# Altium footprint library Inductor-Radial-DR1213.PcbLib: 1 footprints
Each footprint in its own frame and in the unit in brackets; x right, y up, seen from the top. Pads: shape width x height; smd on the part's side, far side on the other; paste and mask are expansions set on the pad; w line width, h text height; cw(c..) or ccw(c..) is an arc to the next point about the centre after c.
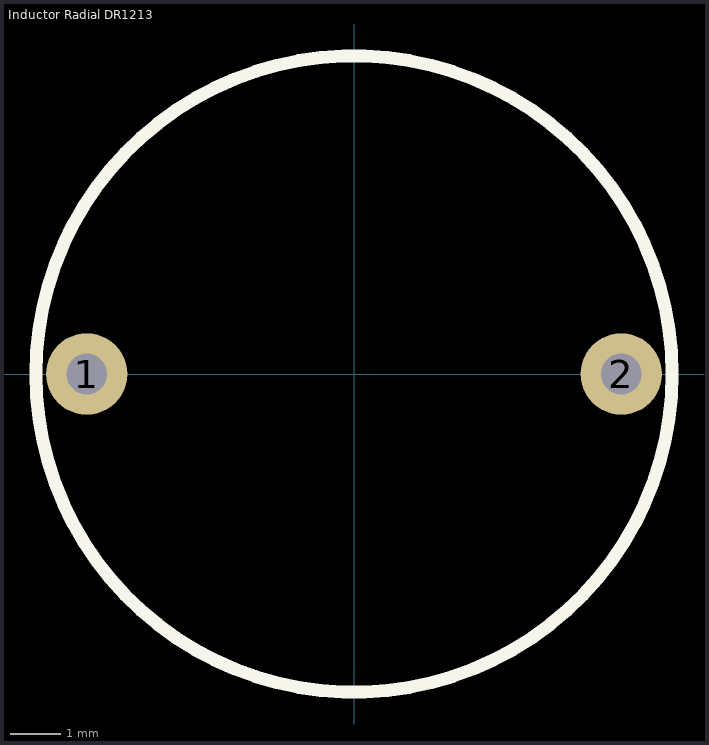
[diagram p0: the footprint, top view; thin cyan lines are the x and y axes]

## Inductor Radial DR1213 [mm] "Inductor Radial DR1213"
pads (2):
  round 1.6 hole 0.8: 1(-5.25,0) 2(5.25,0)
Top Overlay:
  circle w0.254: c0,0 r6.25
3D body: height 15.5, standoff 0, extent -6.25,-6.247 6.25,6.247